# EAGLE library part ADG704 (library graftel-internal-ic)
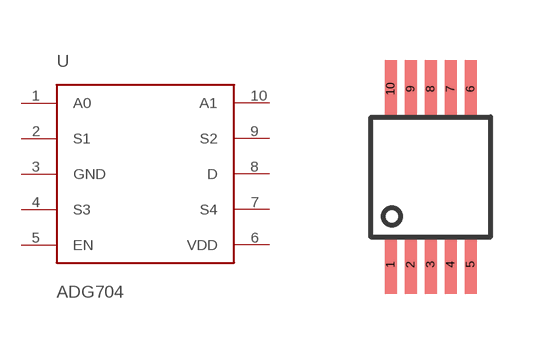
[diagram p44: symbol with the pads of TFSOP-10; footprint TFSOP-10]

Designator prefix U

## ADG704  [TFSOP-10]
1  A0
2  S1
3  GND
4  S3
5  EN
6  VDD
7  S4
8  D
9  S2
10  A1

## Footprint TFSOP-10 (pad centres in mm)
smd 0.3 x 1.45: 1 -1,-2.2; 2 -0.5,-2.2; 3 0,-2.2; 4 0.5,-2.2; 5 1,-2.2; 6 1,2.2; 7 0.5,2.2; 8 0,2.2; 9 -0.5,2.2; 10 -1,2.2